# EAGLE library part ADUM1201 (library Zoli2_2015-02-22)
Digital isolator.
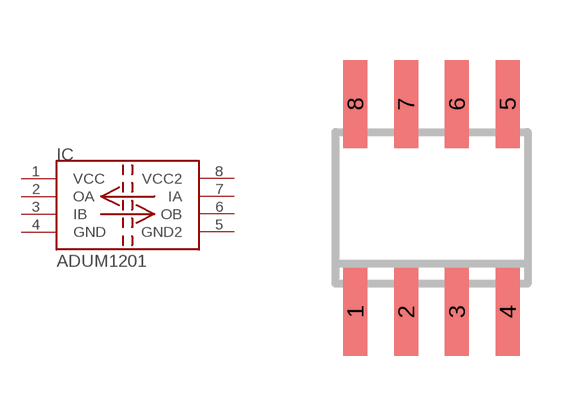
[diagram p48: symbol with the pads of SO08; footprint SO08]

Designator prefix IC

## ADUM1201  [SO08]
1  VCC  pwr
2  OA  out
3  IB  in
4  GND  pwr
5  GND2  pwr
6  OB  out
7  IA  in
8  VCC2  pwr

## Footprint SO08 (pad centres in mm)
Small Outline Package 8
smd 0.6 x 2.2: 1 -1.905,-2.6; 2 -0.635,-2.6; 3 0.635,-2.6; 4 1.905,-2.6; 5 1.905,2.6; 6 0.635,2.6; 7 -0.635,2.6; 8 -1.905,2.6